# EAGLE library part ADS1118_MSOP10 (library ADS1118)
Ultra-Small QFN Package: 2mm × 1,5 mm × 0,4 mm Wide Supply Range: 2.0 V to 5.5 V Low Current Consumption: Continuous Mode: Only 150 µA Single-Shot Mode: Auto Power-Down Programmable Data Rate: 8 SPS to 860 SPS Single-Cycle Settling Internal Low-Drift Voltage Reference Internal Temperature Sensor: 0.5°C (max) Error Internal Oscillator Internal PGA Four Single-Ended or Two Differential Inputs
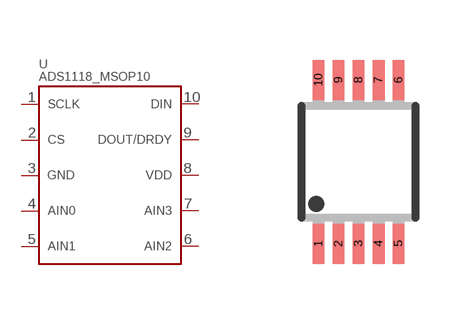
[diagram p0: symbol with the pads of MSOP10; footprint MSOP10]

Designator prefix U

## ADS1118_MSOP10 (VALUE: ADS1118)  [MSOP10]
1  SCLK
2  CS
3  GND
4  AIN0
5  AIN1
6  AIN2
7  AIN3
8  VDD
9  DOUT/DRDY
10  DIN

## Footprint MSOP10 (pad centres in mm)
10 Lead Platic MSOP
smd 0.3 x 1: 1 -1,-2.05; 2 -0.5,-2.05; 3 0,-2.05; 4 0.5,-2.05; 5 1,-2.05; 6 1,2.05; 7 0.5,2.05; 8 0,2.05; 9 -0.5,2.05; 10 -1,2.05